# Altium schematic symbol library ThangTM_Sch.SchLib: 137 symbols (part 3 of 4)
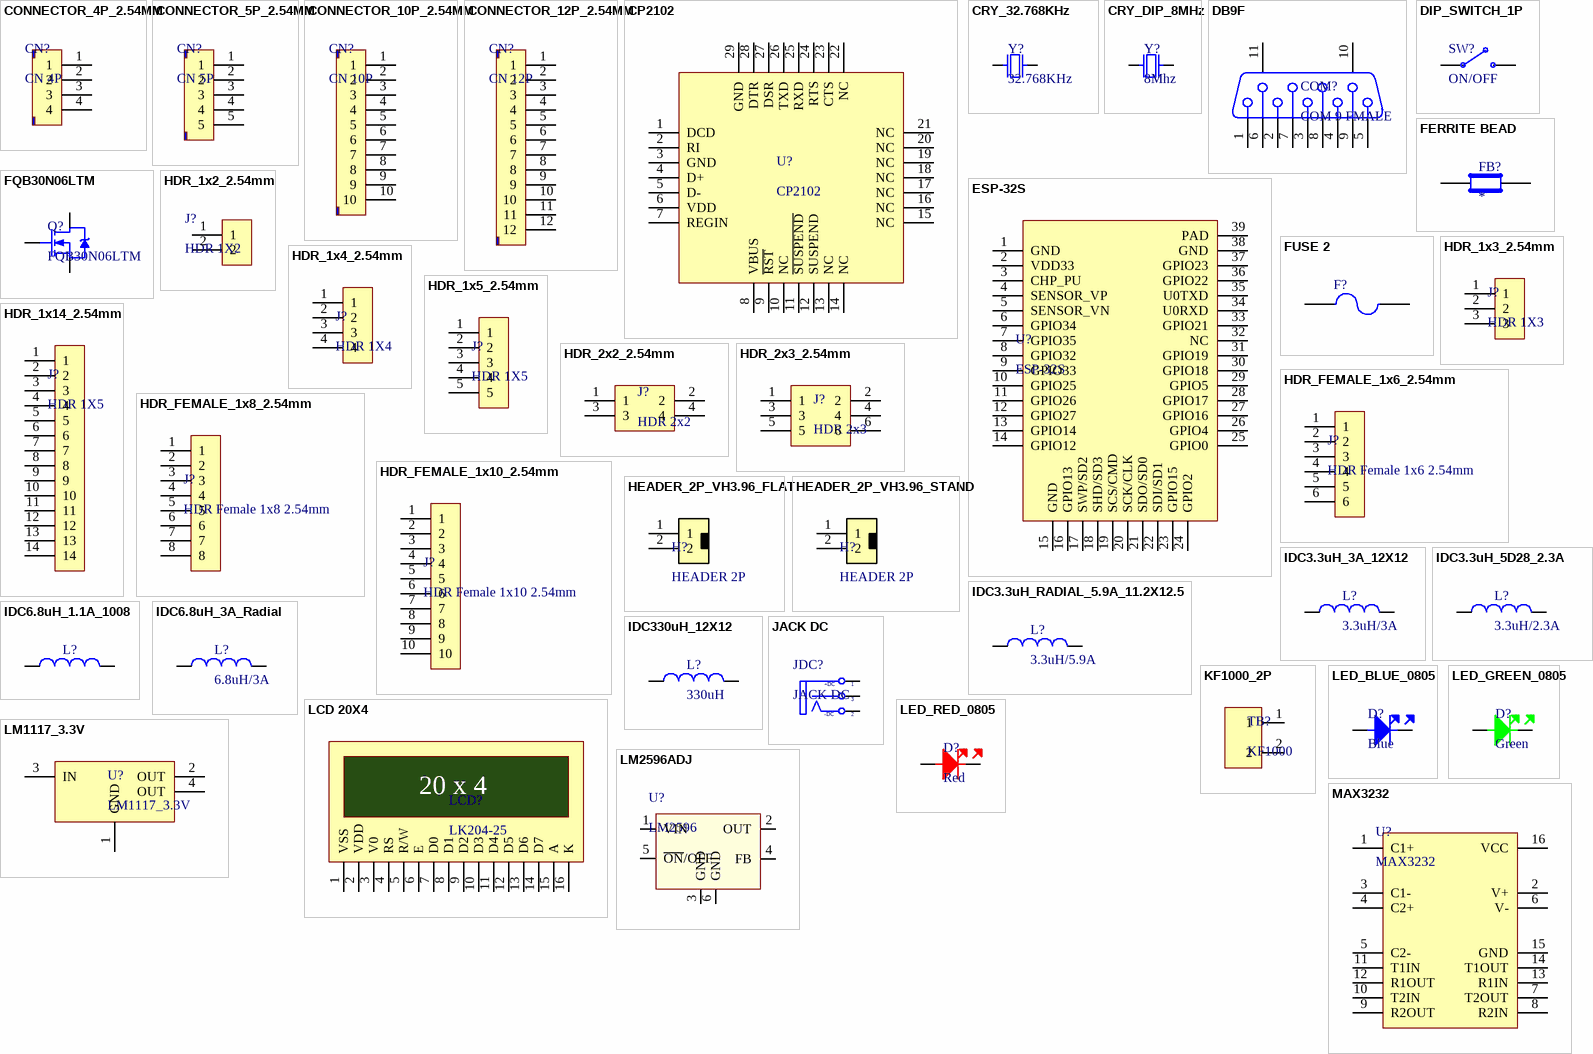
[diagram p5: symbols CONNECTOR_4P_2.54MM to MAX3232]

## LED_GREEN_0805
designator D?, comment Green
LED GREEN DIFFUSED 0805 SMD; Manufacturer: Vishay Lite-On; Manufacturer Part Number: LTST-C171GKT; Lens Color: Colorless; Viewing Angle: 130°; Lens Style: Diffused,Colorless,Rectangular,Clear; Luminous Intensity: 12mcd; Forward Current: 30mA; Forward Voltage: 2.1V; Power Rating: 100mW; Dominant Wavelength: 569nm; Test Current: 10mA; Lens Transparency: Clear; Number of Elements: 1; Wavelength: 585nm; Reverse Voltage: 5V; Supplier 1: Digi-Key; Supplier Part Number 1: 160-1423-1-ND; Stock 1: 284618; Pricing 1: 1 = 0.28000, 10 = 0.20100, 100 = 0.09540, 500 = 0.06364, 1000 = 0.04984 (USD); RoHS: Yes; Mount: Surface Mount; Case/Package: 0805; Number of Pins: 2; Color: Green; Case Code (Metric): 2012; Case Code (Imperial): 0805; Min Operating Temperature: -55°C; Max Operating Temperature: 85°C; Package Quantity: 1; Packaging: Tape and Reel; Illumination Color: Green; Power Dissipation: 100mW; Number of LEDs: 1; Length: 2mm; Height: 0.8mm; Width: 1.25mm; Depth: 1.25mm; Radiation Hardening: No; Lead Free: Lead Free; ComponentLink1URL: https://datasheet.ciiva.com/11773/0900766b80dc0296-11773991.pdf?src-supplier=RSComponents; ComponentLink1Description: https://datasheet.ciiva.com/11773/0900766b80dc0296-11773991.pdf?src-supplier=RSComponents; ComponentLink2URL: https://datasheet.ciiva.com/2110/ltst-c171gkt-2110000.pdf?src-supplier=Digi-Key; ComponentLink2Description: https://datasheet.ciiva.com/2110/ltst-c171gkt-2110000.pdf?src-supplier=Digi-Key; ComponentLink3URL: https://datasheet.ciiva.com/12400/lite-on-ltst-c171gkt-190133-12400647.pdf?src-supplier=Mouser; ComponentLink3Description: https://datasheet.ciiva.com/12400/lite-on-ltst-c171gkt-190133-12400647.pdf?src-supplier=Mouser; ComponentLink4URL: https://datasheet.ciiva.com/2110/ltst-c171gkt-2110001.pdf?src-supplier=Digi-Key; ComponentLink4Description: https://datasheet.ciiva.com/2110/ltst-c171gkt-2110001.pdf?src-supplier=Digi-Key; ComponentLink5URL: https://datasheet.ciiva.com/2110/ltst-c171gkt-2110002.pdf?src-supplier=Digi-Key; ComponentLink5Description: https://datasheet.ciiva.com/2110/ltst-c171gkt-2110002.pdf?src-supplier=Digi-Key; ComponentLink6URL: https://datasheet.ciiva.com/16396/ltst-c171gkt-16396549.pdf?src-supplier=Future+Electronics; ComponentLink6Description: https://datasheet.ciiva.com/16396/ltst-c171gkt-16396549.pdf?src-supplier=Future+Electronics
footprint LED_GREEN_0805
pins: 1 Anode, 2 Cathode

## LED_RED_0805
designator D?, comment Red
LED RED DIFFUSED 0805 SMD; Manufacturer: Osram Opto; Manufacturer Part Number: LHR974-LP-1; Forward Voltage: 2.6V; Lens Style: Diffused,Colorless; Luminous Intensity: 15mcd; Viewing Angle: 160°; Forward Current: 30mA; Dominant Wavelength: 645nm; Number of Elements: 1; Test Current: 20mA; Reverse Voltage: 5V; Supplier 1: Digi-Key; Supplier Part Number 1: 475-1415-1-ND; Stock 1: 73137; Pricing 1: 1 = 0.27000, 10 = 0.20100, 100 = 0.09510, 500 = 0.06340, 1000 = 0.04966 (USD); RoHS: Yes; Mount: Surface Mount; Number of Pins: 2; Min Operating Temperature: -30°C; Max Operating Temperature: 85°C; Packaging: Tape and Reel; Length: 2.1mm; Depth: 1.35mm; Radiation Hardening: No; ComponentLink1URL: http://www.jameco.com/Jameco/Products/ProdDS/2085634.pdf?src-supplier=Jameco; ComponentLink1Description: http://www.jameco.com/Jameco/Products/ProdDS/2085634.pdf?src-supplier=Jameco; ComponentLink2URL: http://components.arrow.com/part/dataview/0323_01825492?src-supplier=Arrow+Europe; ComponentLink2Description: http://components.arrow.com/part/dataview/0323_01825492?src-supplier=Arrow+Europe; ComponentLink3URL: http://components.arrow.com/part/dataview/41971690S1077610N9133?src-supplier=Arrow; ComponentLink3Description: http://components.arrow.com/part/dataview/41971690S1077610N9133?src-supplier=Arrow; ComponentLink4URL: https://dammedia.osram.info/media/resource/hires/osram-dam-2493888/LH%20R974.pdf?src-supplier=Digi-Key; ComponentLink4Description: https://dammedia.osram.info/media/resource/hires/osram-dam-2493888/LH%20R974.pdf?src-supplier=Digi-Key; ComponentLink5URL: http://components.arrow.com/part/dataview/41971690S6190115N2128?src-supplier=Arrow; ComponentLink5Description: http://components.arrow.com/part/dataview/41971690S6190115N2128?src-supplier=Arrow; ComponentLink6URL: http://www.mouser.com/ds/2/311/LH%20R974%20-%20CHIPLED%200805-318659.pdf?src-supplier=Mouser; ComponentLink6Description: http://www.mouser.com/ds/2/311/LH%20R974%20-%20CHIPLED%200805-318659.pdf?src-supplier=Mouser; ComponentLink7URL: https://www.verical.com/server-webapp/html/getDatasheet?partID=258950&src-supplier=Verical; ComponentLink7Description: https://www.verical.com/server-webapp/html/getDatasheet?partID=258950&src-supplier=Verical
footprint LED_RED_0805
pins: 1 Anode, 2 Cathode

## LM1117_3.3V
designator U?
LDO Regulator Pos 1.25V to 13.8V 0.8A 4-Pin(3+Tab) SOT-223 T/R; Manufacturer: TI National Semiconductor; Manufacturer Part Number: LM1117IMPX-ADJ/NOPB; Max Input Voltage: 15V; Max Output Current: 800mA; Accuracy: 1%; Dropout Voltage: 1.2V; Number of Outputs: 1; Output Voltage: 3.3V; Polarity: Positive; Quiescent Current: 10mA; Output Type: Fixed; Min Input Voltage: 2.6V; Case/Package: SOT-223; Contact Plating: Tin,Matte; Max Operating Temperature: 125°C; Lead Free: Lead Free; Supplier 1: Digi-Key; Stock 1: 39623; Pricing 1: 1 = 1.10000, 10 = 0.98500, 100 = 0.71810, 500 = 0.60120, 1000 = 0.46760 (USD); RoHS: Yes; Mount: Surface Mount; Number of Pins: 4; Min Operating Temperature: -40°C; Nominal Output Voltage: 3.3V; Output Current: 800mA; Packaging: Tape and Reel; Current Rating: 800mA; Output Voltage Accuracy: 1%; Max Output Voltage: 3.3V; Length: 6.5mm; Height: 1.6mm; Width: 3.56mm; REACH SVHC: No SVHC; ComponentLink1URL: https://datasheet.ciiva.com/49027/1882372-49027926.pdf?src-supplier=Element14; ComponentLink1Description: https://datasheet.ciiva.com/49027/1882372-49027926.pdf?src-supplier=Element14; Supplier Part Number 1: LM1117MPX-3.3/NOPBCT-ND
footprint SOT-223-DCY
pins: 1 GND, 2 OUT, 3 IN, 4 OUT

## LM2596ADJ
designator U?, comment LM2596
Conv DC-DC Single Step Down 4.5V to 40V 6-Pin(5+Tab) D2PAK T/R; Manufacturer: ON Semiconductor; Manufacturer Part Number: LM2596DSADJR4G; Max Output Current: 3A; Number of Outputs: 1; Output Voltage: 37V; Efficiency: 73%; Switching Frequency: 150kHz; Synchronous Rectifier: No; Min Output Voltage: 1.23V; Topology: Buck-Boost; Output Type: Adjustable; ComponentLink1URL: https://www.verical.com/server-webapp/html/getDatasheet?partID=224280&src-supplier=Verical; ComponentLink1Description: https://www.verical.com/server-webapp/html/getDatasheet?partID=224280&src-supplier=Verical; ComponentLink2URL: http://www.onsemi.com/pub_link/Collateral/LM2596-D.PDF?src-supplier=Digi-Key; ComponentLink2Description: http://www.onsemi.com/pub_link/Collateral/LM2596-D.PDF?src-supplier=Digi-Key; ComponentLink3URL: http://www.onsemi.com/pub/Collateral/LM2596-D.PDF?src-supplier=Digi-Key; ComponentLink3Description: http://www.onsemi.com/pub/Collateral/LM2596-D.PDF?src-supplier=Digi-Key; ComponentLink4URL: http://www.onsemi.com/pub/Collateral/LM2596-D.PDF?src-supplier=Avnet; ComponentLink4Description: http://www.onsemi.com/pub/Collateral/LM2596-D.PDF?src-supplier=Avnet; Supplier 1: Digi-Key; Stock 1: 13170; Pricing 1: 1 = 2.54000, 10 = 2.27900, 100 = 1.83170 (USD); RoHS: Yes; Mount: Surface Mount; Case/Package: D2PAK; Number of Pins: 5; Min Operating Temperature: -40°C; Max Operating Temperature: 125°C; Max Input Voltage: 40V; Min Input Voltage: 4.5V; Packaging: Tape and Reel; Output Current: 3A; Package Quantity: 800; Max Output Voltage: 37V; Operating Supply Voltage: 40V; Length: 10.24mm; Height: 9.347mm; Width: 4.572mm; Radiation Hardening: No; REACH SVHC: No SVHC; Lead Free: Lead Free; Halogen Free: Halogen Free; ComponentLink5URL: https://datasheet.ciiva.com/15113/getdatasheetpartid-224280-15113862.pdf?src-supplier=Verical; ComponentLink5Description: https://datasheet.ciiva.com/15113/getdatasheetpartid-224280-15113862.pdf?src-supplier=Verical; ComponentLink6URL: https://datasheet.ciiva.com/6603/lm2596-d-6603896.pdf?src-supplier=Digi-Key; ComponentLink6Description: https://datasheet.ciiva.com/6603/lm2596-d-6603896.pdf?src-supplier=Digi-Key; ComponentLink7URL: https://datasheet.ciiva.com/6603/lm2596-d-6603897.pdf?src-supplier=Digi-Key; ComponentLink7Description: https://datasheet.ciiva.com/6603/lm2596-d-6603897.pdf?src-supplier=Digi-Key; ComponentLink8URL: https://datasheet.ciiva.com/6603/lm2596-d-6603898.pdf?src-supplier=Digi-Key; ComponentLink8Description: https://datasheet.ciiva.com/6603/lm2596-d-6603898.pdf?src-supplier=Digi-Key; ComponentLink9URL: https://datasheet.ciiva.com/8270/lm2596-d-8270188.pdf?src-supplier=Avnet; ComponentLink9Description: https://datasheet.ciiva.com/8270/lm2596-d-8270188.pdf?src-supplier=Avnet; Supplier Part Number 1: LM2596DSADJR4GOSCT-ND
footprint D2_PAK
pins: 1 VIN, 2 OUT, 3 GND, 4 FB, 5 ~{ON}/OFF, 6 GND

## MAX3232
designator U?
IC DRVR/RCVR MULTCH RS232 16SOIC; Manufacturer: Texas Instruments; Manufacturer Part Number: MAX3232CDR; Number of Receivers: 2; Data Rate: 250Kbps; Operating Supply Voltage: 5V; Max Supply Voltage: 5.5V; Min Supply Voltage: 3V; Nominal Supply Current: 1mA; Logic Function: Transceiver,Receiver; Number of Transceivers: 1; Output Voltage: 5.4V; Simplex/Duplex: Full Duplex; ESD Protection: Yes; Supplier 1: Digi-Key; Stock 1: 12554; Pricing 1: 1=1.89000, 10=1.69500, 25=1.59920, 100=1.27930, 250=1.11936, 500=1.08738, 1000=0.86350 (USD); RoHS: Yes; Mount: Surface Mount; Case/Package: D; Number of Pins: 16; Weight: 0.004998oz; Contact Plating: Gold; Min Operating Temperature: -40°C; Max Operating Temperature: 85°C; Number of Transmitters: 2; Packaging: Tape and Reel; Package Quantity: 1; Number of Drivers: 2; Operating Supply Current: 1mA; Max Supply Current: 1mA; Length: 9.9mm; Height: 1.58mm; Width: 3.91mm; Radiation Hardening: No; REACH SVHC: No SVHC; Lead Free: Lead Free; ComponentLink1URL: https://datasheet.ciiva.com/41461/001186897-da-01-en-ic-drvr-rcvr-mult-max3232cdr-soic-16-tid-41461424.pdf?src-supplier=Conrad; ComponentLink1Description: https://datasheet.ciiva.com/41461/001186897-da-01-en-ic-drvr-rcvr-mult-max3232cdr-soic-16-tid-41461424.pdf?src-supplier=Conrad; ComponentLink2URL: https://datasheet.ciiva.com/1702/max3232-1702778.pdf?src-supplier=Digi-Key; ComponentLink2Description: https://datasheet.ciiva.com/1702/max3232-1702778.pdf?src-supplier=Digi-Key; ComponentLink3URL: https://datasheet.ciiva.com/1702/max3232-1702779.pdf?src-supplier=Digi-Key; ComponentLink3Description: https://datasheet.ciiva.com/1702/max3232-1702779.pdf?src-supplier=Digi-Key; ComponentLink4URL: https://datasheet.ciiva.com/1702/max3232-1702780.pdf?src-supplier=Digi-Key; ComponentLink4Description: https://datasheet.ciiva.com/1702/max3232-1702780.pdf?src-supplier=Digi-Key; ComponentLink5URL: https://datasheet.ciiva.com/46397/1882754-46397998.pdf?src-supplier=Element14; ComponentLink5Description: https://datasheet.ciiva.com/46397/1882754-46397998.pdf?src-supplier=Element14; Supplier Part Number 1: 296-13094-1-ND
footprint PDSO_G16
pins: 1 C1+, 2 V+, 3 C1-, 4 C2+, 5 C2-, 6 V-, 7 T2OUT, 8 R2IN, 9 R2OUT, 10 T2IN, 11 T1IN, 12 R1OUT, 13 R1IN, 14 T1OUT, 15 GND, 16 VCC

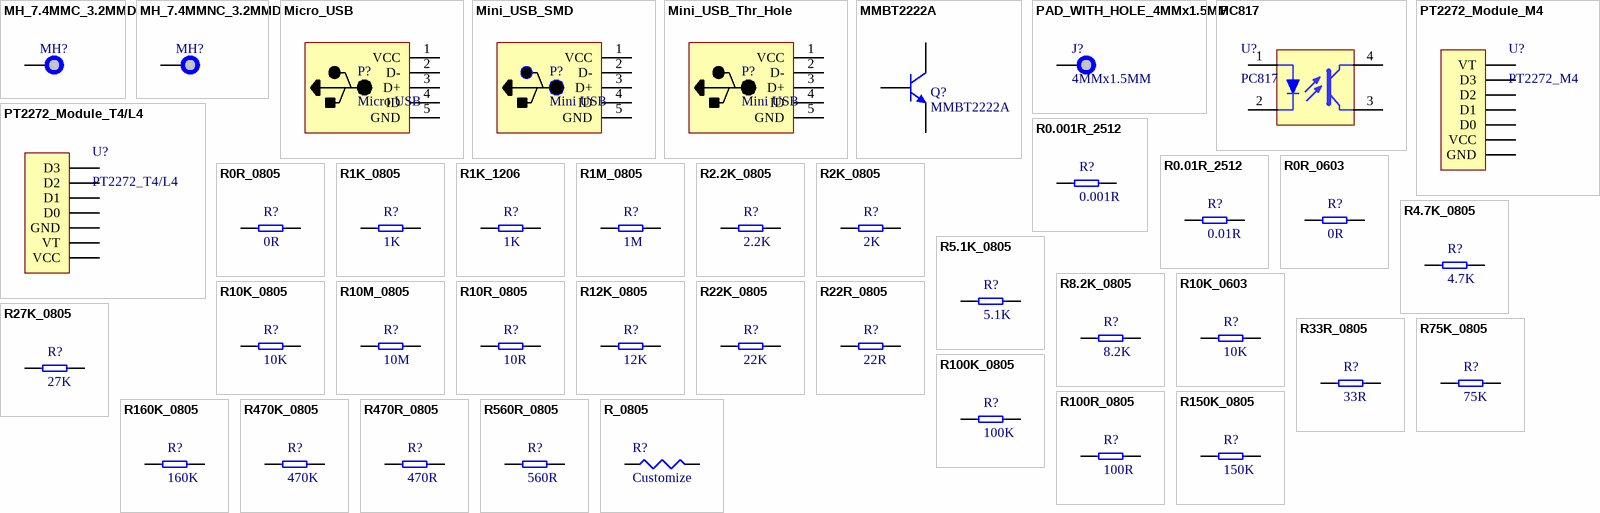
[diagram p2: symbols MH_7.4MMC_3.2MMD to R_0805]

## MH_7.4MMC_3.2MMD
designator MH?  (value not drawn)  (no BOM)
Mouting hole 7.4MM Diameter, 3.2MM Drill
footprint MH_7.4MMC_3.2MMD
pins: 1

## MH_7.4MMNC_3.2MMD
designator MH?, comment MH_7.4MMC_3.2MMD  (value not drawn)  (no BOM)
Mouting hole 7.4MM Diameter (Non Copper), 3.2MM Drill NPTH
footprint MH_7.4MMC_3.2MMD_NON_COPPER_NPTH
pins: 1

## Micro_USB
designator P?, comment Micro USB
pins: 1 VCC, 2 D-, 3 D+, 4 ID, 5 GND

## Mini_USB_SMD
designator P?, comment Mini USB
footprint MiniUSB_SMD
pins: 1 VCC, 2 D-, 3 D+, 4 ID, 5 GND

## Mini_USB_Thr_Hole
designator P?, comment Mini USB
footprint MiniUSB_Thr_Hole
pins: 1 VCC, 2 D-, 3 D+, 4 ID, 5 GND

## MMBT2222A
designator Q?
Transistors Bipolar - BJT SOT-23 NPN GEN PUR; Manufacture: Fairchild Semiconductor; BSH Part number: Q-MMBT2222A; Datasheet: http://www.mouser.com/ds/2/149/MMBT2222A-69200.pdf; Part number: MMBT2222A; Mouser add: http://vn.mouser.com/ProductDetail/Fairchild-Semiconductor/MMBT2222A/?qs=sGAEpiMZZMutXGli8Ay4kHKRdIvtrnJvbVzYv9px7so%3d
footprint SOT_23
pins: 1 B, 2 C, 3 E

## PAD_WITH_HOLE_4MMx1.5MM
designator J?, comment 4MMx1.5MM  (no BOM)
Pad with a hole 4mm x 1.5mm
footprint PAD_WITH_HOLE_4MMx1.5MM
pins: 1

## PC817
designator U?
Part number: PC817XNNIP1B; datasheet: https://www.mouser.com/datasheet/2/365/SHARP_PC817XNNIP1B-1360398.pdf; Package: SMD-4; Mouser Link: https://www.mouser.com/ProductDetail/Sharp-Microelectronics/PC817XNNIP1B?qs=%2fha2pyFadujbJ58agqN33HT7tJVy2SrMtv2Oa5iQyCWT37brMPf2hQ%3d%3d
footprint PC817x1SMD (SMD)
pins: 1 A, 2 K, 3 E, 4 C

## PT2272_Module_M4
designator U?, comment PT2272_M4
footprint PT2272_M4
pins: 1 VT, 2 D3, 3 D2, 4 D1, 5 D0, 6 VCC, 7 GND

## PT2272_Module_T4/L4
designator U?, comment PT2272_T4/L4
footprint PT2272_T4/L4
pins: 1 D3, 2 D2, 3 D1, 4 D0, 5 GND, 6 VT, 7 VCC

## R0.001R_2512
designator R?, comment 0.001R
RES 0.001 OHM 1% 2W 2512; Manufacturer: Stackpole Electronics; Manufacturer Part Number: CSNL2512FT1L00; Resistance: 1mR; Temperature Coefficient: 50ppm/°C; Supplier 1: Digi-Key; Supplier Part Number 1: CSNL2512FT1L00CT-ND; Stock 1: 105490; Pricing 1: 1 = 0.68000, 10 = 0.56600, 25 = 0.48520, 50 = 0.43660, 100 = 0.38000, 250 = 0.33956, 500 = 0.27490, 1000 = 0.22234 (USD); RoHS: Yes; Mount: Surface Mount; Case/Package: 2512; Case Code (Metric): 6432; Case Code (Imperial): 2512; Contact Plating: Tin,Matte; Min Operating Temperature: -55°C; Max Operating Temperature: 170°C; Packaging: Tape and Reel; Tolerance: 1%; Power Rating: 2W; Composition: Metal Foil; Number of Terminations: 2; Max Power Dissipation: 2W; Features: Moisture Resistant; Length: 0.25inch; Height: 0.033inch; Width: 0.125inch; Radiation Hardening: No; Lead Free: Lead Free; ComponentLink1URL: http://components.arrow.com/part/dataview/47858191S8378277N1174?src-supplier=Arrow; ComponentLink1Description: http://components.arrow.com/part/dataview/47858191S8378277N1174?src-supplier=Arrow; ComponentLink2URL: http://www.seielect.com/Catalog/SEI-csnl.pdf?src-supplier=Future+Electronics; ComponentLink2Description: http://www.seielect.com/Catalog/SEI-csnl.pdf?src-supplier=Future+Electronics; ComponentLink3URL: https://www.seielect.com/catalog/SEI-Packaging.pdf?src-supplier=Digi-Key; ComponentLink3Description: https://www.seielect.com/catalog/SEI-Packaging.pdf?src-supplier=Digi-Key; ComponentLink4URL: https://www.seielect.com/Catalog/SEI-csnl.pdf?src-supplier=Digi-Key; ComponentLink4Description: https://www.seielect.com/Catalog/SEI-csnl.pdf?src-supplier=Digi-Key; ComponentLink5URL: https://www.seielect.com/Catalog/SEI-CSNL.pdf?src-supplier=Avnet; ComponentLink5Description: https://www.seielect.com/Catalog/SEI-CSNL.pdf?src-supplier=Avnet
footprint R2512
pins: 1, 2

## R0.01R_2512
designator R?, comment 0.01R
RES SMD 10 mOHM 1% 1W 2512; Manufacturer: Vishay Dale; Manufacturer Part Number: WSL2512R0100FEA; Resistance: 10mR; Temperature Coefficient: 75ppm/°C; Voltage Rating: 100mV; Supplier 1: Digi-Key; Supplier Part Number 1: WSLG-.01CT-ND; Stock 1: 145957; Pricing 1: 1 = 1.37000, 10 = 1.21700, 25 = 1.11920, 50 = 1.02100, 100 = 0.88360, 250 = 0.74612, 500 = 0.62832, 1000 = 0.52229 (USD); RoHS: Yes; Case/Package: 2512; Weight: 0.002243oz; Contact Plating: Tin,Matte; Case Code (Imperial): 2512; Case Code (Metric): 6432; Min Operating Temperature: -65°C; Max Operating Temperature: 170°C; Tolerance: 1%; Power Rating: 1W; Composition: Metal Strip; Packaging: Tape and Reel; Package Quantity: 2000; Termination: SMD/SMT; Military Standard: Not; Length: 6.35mm; Height: 0.635mm; Width: 3.2mm; Depth: 3.18mm; Radiation Hardening: No; REACH SVHC: Unknown; Lead Free: Lead Free; ComponentLink1URL: https://datasheet.ciiva.com/3883/wsl-3883058.pdf?src-supplier=Arrow; ComponentLink1Description: https://datasheet.ciiva.com/3883/wsl-3883058.pdf?src-supplier=Arrow; ComponentLink2URL: https://datasheet.ciiva.com/11811/0900766b80d81e3e-11811765.pdf?src-supplier=RSComponents; ComponentLink2Description: https://datasheet.ciiva.com/11811/0900766b80d81e3e-11811765.pdf?src-supplier=RSComponents; ComponentLink3URL: https://datasheet.ciiva.com/28621/1911169-28621845.pdf?src-supplier=Element14; ComponentLink3Description: https://datasheet.ciiva.com/28621/1911169-28621845.pdf?src-supplier=Element14; ComponentLink4URL: https://datasheet.ciiva.com/7702/442550-7702454.pdf?src-supplier=Element14; ComponentLink4Description: https://datasheet.ciiva.com/7702/442550-7702454.pdf?src-supplier=Element14; ComponentLink5URL: https://datasheet.ciiva.com/7702/442550-7702455.pdf?src-supplier=Element14; ComponentLink5Description: https://datasheet.ciiva.com/7702/442550-7702455.pdf?src-supplier=Element14; ComponentLink6URL: https://datasheet.ciiva.com/16504/wsl-16504424.pdf?src-supplier=Future+Electronics; ComponentLink6Description: https://datasheet.ciiva.com/16504/wsl-16504424.pdf?src-supplier=Future+Electronics; ComponentLink7URL: https://datasheet.ciiva.com/46385/1825016-46385259.pdf?src-supplier=Element14; ComponentLink7Description: https://datasheet.ciiva.com/46385/1825016-46385259.pdf?src-supplier=Element14; ComponentLink8URL: https://datasheet.ciiva.com/9049/wsl-9049372.pdf?src-supplier=Avnet; ComponentLink8Description: https://datasheet.ciiva.com/9049/wsl-9049372.pdf?src-supplier=Avnet; ComponentLink9URL: https://datasheet.ciiva.com/17190/wsl-17190047.pdf?src-supplier=Avnet+Europe; ComponentLink9Description: https://datasheet.ciiva.com/17190/wsl-17190047.pdf?src-supplier=Avnet+Europe
footprint R2512
pins: 1, 2

## R0R_0603
designator R?, comment 0R
footprint R0603
pins: 1, 2

## R0R_0805
designator R?, comment 0R
RES SMD 0 OHM JUMPER 1/8W 0805; Manufacturer: Yageo; Manufacturer Part Number: RC0805JR-070RL; Resistance: 0mR; Tolerance: 5%; Power Rating: 125mW; Voltage Rating: 150V; Temperature Coefficient: 200ppm/°C; Supplier 1: Digi-Key; Supplier Part Number 1: 311-0.0ARCT-ND; Stock 1: 13851015; Pricing 1: 1 = 0.10000, 10 = 0.03800, 25 = 0.02760, 50 = 0.02100, 100 = 0.01540, 250 = 0.01180, 500 = 0.00942, 1000 = 0.00694 (USD); RoHS: Yes; Case/Package: 0805; Number of Pins: 2; Contact Plating: Tin,Matte; Case Code (Imperial): 0805; Case Code (Metric): 2012; Min Operating Temperature: -55°C; Max Operating Temperature: 155°C; Composition: Thick Film; Packaging: Tape and Reel; Voltage Rating (DC): 150V; Termination: SMD/SMT; Military Standard: Not; Length: 2mm; Height: 0.5mm; Width: 1.25mm; Depth: 1.25mm; Radiation Hardening: No; REACH SVHC: Unknown; Lead Free: Lead Free; ComponentLink1URL: https://datasheet.ciiva.com/7941/1738694-7941861.pdf?src-supplier=Element14; ComponentLink1Description: https://datasheet.ciiva.com/7941/1738694-7941861.pdf?src-supplier=Element14; ComponentLink2URL: https://datasheet.ciiva.com/11819/0900766b8106beab-11819430.pdf?src-supplier=RSComponents; ComponentLink2Description: https://datasheet.ciiva.com/11819/0900766b8106beab-11819430.pdf?src-supplier=RSComponents; ComponentLink3URL: https://datasheet.ciiva.com/7941/1738694-7941862.pdf?src-supplier=Element14; ComponentLink3Description: https://datasheet.ciiva.com/7941/1738694-7941862.pdf?src-supplier=Element14; ComponentLink4URL: https://datasheet.ciiva.com/7941/1738694-7941863.pdf?src-supplier=Element14; ComponentLink4Description: https://datasheet.ciiva.com/7941/1738694-7941863.pdf?src-supplier=Element14; ComponentLink5URL: https://datasheet.ciiva.com/15190/getdatasheetpartid-330685-15190028.pdf?src-supplier=Verical; ComponentLink5Description: https://datasheet.ciiva.com/15190/getdatasheetpartid-330685-15190028.pdf?src-supplier=Verical
footprint R0805
pins: 1, 2

## R1K_0805
designator R?, comment 1K
RES SMD 1K OHM 1% 1/8W 0805; Manufacturer: Yageo; Manufacturer Part Number: RC0805FR-071KL; Resistance: 1kR; Temperature Coefficient: 100ppm/°C; Voltage Rating (DC): 150V; Power Rating: 125mW; Supplier 1: Digi-Key; Stock 1: 26292297; Pricing 1: 1 = 0.10000, 10 = 0.03600, 100 = 0.01480, 1000 = 0.00663, 2500 = 0.00575 (USD); RoHS: Yes; Case/Package: 0805; Number of Pins: 2; Case Code (Metric): 2012; Case Code (Imperial): 0805; Min Operating Temperature: -55°C; Max Operating Temperature: 155°C; Tolerance: 1%; Packaging: Tape and Reel; Composition: Thick Film; Package Quantity: 1; Voltage Rating: 150V; Number of Terminations: 2; Termination: SMD/SMT; Military Standard: Not; Max Power Dissipation: 125mW; Features: Moisture Resistant; Length: 0.079inch; Height: 0.024inch; Width: 0.049inch; Depth: 1.25mm; REACH SVHC: Unknown; Lead Free: Lead Free; ComponentLink1URL: https://datasheet.ciiva.com/2456/pyu-r-int-thick-7-2456976.pdf?src-supplier=Digi-Key; ComponentLink1Description: https://datasheet.ciiva.com/2456/pyu-r-int-thick-7-2456976.pdf?src-supplier=Digi-Key; ComponentLink2URL: https://datasheet.ciiva.com/2456/pyu-r-int-thick-7-2456977.pdf?src-supplier=Digi-Key; ComponentLink2Description: https://datasheet.ciiva.com/2456/pyu-r-int-thick-7-2456977.pdf?src-supplier=Digi-Key; ComponentLink3URL: https://datasheet.ciiva.com/7941/1686128-7941719.pdf?src-supplier=Element14; ComponentLink3Description: https://datasheet.ciiva.com/7941/1686128-7941719.pdf?src-supplier=Element14; ComponentLink4URL: https://datasheet.ciiva.com/16850/rc0805-16850409.pdf?src-supplier=Future+Electronics; ComponentLink4Description: https://datasheet.ciiva.com/16850/rc0805-16850409.pdf?src-supplier=Future+Electronics; ComponentLink5URL: https://datasheet.ciiva.com/46385/444164-46385020.pdf?src-supplier=Element14; ComponentLink5Description: https://datasheet.ciiva.com/46385/444164-46385020.pdf?src-supplier=Element14; ComponentLink6URL: https://datasheet.ciiva.com/2456/pyu-r-int-thick-7-2456975.pdf?src-supplier=Digi-Key; ComponentLink6Description: https://datasheet.ciiva.com/2456/pyu-r-int-thick-7-2456975.pdf?src-supplier=Digi-Key; Supplier Part Number 1: 311-1.00KCRCT-ND
footprint R0805
pins: 1, 2

## R1K_1206
designator R?, comment 1K
RES SMD 1K OHM 5% 1/4W 1206; Manufacturer: Yageo; Manufacturer Part Number: RC1206JR-071KL; Resistance: 1kR; Power Rating: 250mW; Voltage Rating: 200V; Temperature Coefficient: 100ppm/°C; Supplier 1: Digi-Key; Supplier Part Number 1: 311-1.0KERCT-ND; Stock 1: 3866127; Pricing 1: 1 = 0.10000, 10 = 0.06100, 100 = 0.02490, 1000 = 0.01118, 2500 = 0.00971 (USD); RoHS: Yes; Case/Package: 1206; Case Code (Metric): 3216; Case Code (Imperial): 1206; Min Operating Temperature: -55°C; Max Operating Temperature: 155°C; Package Quantity: 1; Tolerance: 5%; Packaging: Tape and Reel; Composition: Thick Film; Number of Terminations: 2; Termination: SMD/SMT; Military Standard: Not; Max Power Dissipation: 250mW; Length: 3.1mm; Height: 0.026inch; Width: 0.063inch; Depth: 1.6mm; REACH SVHC: Unknown; Lead Free: Lead Free; ComponentLink1URL: https://datasheet.ciiva.com/2458/pyu-r-int-thick-7-2458672.pdf?src-supplier=Digi-Key; ComponentLink1Description: https://datasheet.ciiva.com/2458/pyu-r-int-thick-7-2458672.pdf?src-supplier=Digi-Key; ComponentLink2URL: https://datasheet.ciiva.com/2458/pyu-r-int-thick-7-2458673.pdf?src-supplier=Digi-Key; ComponentLink2Description: https://datasheet.ciiva.com/2458/pyu-r-int-thick-7-2458673.pdf?src-supplier=Digi-Key; ComponentLink3URL: https://datasheet.ciiva.com/2458/pyu-r-int-thick-7-2458671.pdf?src-supplier=Digi-Key; ComponentLink3Description: https://datasheet.ciiva.com/2458/pyu-r-int-thick-7-2458671.pdf?src-supplier=Digi-Key
footprint R1206
pins: 1, 2

## R1M_0805
designator R?, comment 1M
RES SMD 1M OHM 1% 1/8W 0805; Manufacturer: Yageo; Manufacturer Part Number: RC0805FR-071ML; Resistance: 1MR; Temperature Coefficient: 100ppm/°C; Power Rating: 125mW; Voltage Rating: 150V; Supplier 1: Digi-Key; Supplier Part Number 1: 311-1.00MCRCT-ND; Stock 1: 5530159; Pricing 1: 1 = 0.100000, 10 = 0.040000, 100 = 0.016200, 1000 = 0.007260, 2500 = 0.006300 (USD); RoHS: Yes; Case/Package: 0805; Case Code (Metric): 2012; Case Code (Imperial): 0805; Min Operating Temperature: -55°C; Max Operating Temperature: 155°C; Tolerance: 1%; Composition: Thick Film; Packaging: Tape and Reel; Package Quantity: 1; Number of Terminations: 2; Termination: SMD/SMT; Military Standard: Not; Max Power Dissipation: 125mW; Features: Moisture Resistant; Length: 0.079inch; Height: 0.024inch; Width: 0.049inch; Depth: 1.25mm; REACH SVHC: Unknown; Lead Free: Lead Free; ComponentLink1URL: https://datasheet.ciiva.com/2519/pyu-r-int-thick-7-2519712.pdf?src-supplier=Digi-Key; ComponentLink1Description: https://datasheet.ciiva.com/2519/pyu-r-int-thick-7-2519712.pdf?src-supplier=Digi-Key; ComponentLink2URL: https://datasheet.ciiva.com/2519/pyu-r-int-thick-7-2519713.pdf?src-supplier=Digi-Key; ComponentLink2Description: https://datasheet.ciiva.com/2519/pyu-r-int-thick-7-2519713.pdf?src-supplier=Digi-Key; ComponentLink3URL: https://datasheet.ciiva.com/17419/rc0805-17419909.pdf?src-supplier=Future+Electronics; ComponentLink3Description: https://datasheet.ciiva.com/17419/rc0805-17419909.pdf?src-supplier=Future+Electronics; ComponentLink4URL: https://datasheet.ciiva.com/2519/pyu-r-int-thick-7-2519711.pdf?src-supplier=Digi-Key; ComponentLink4Description: https://datasheet.ciiva.com/2519/pyu-r-int-thick-7-2519711.pdf?src-supplier=Digi-Key; ComponentLink5URL: https://datasheet.ciiva.com/12666/rc0805-12666975.pdf?src-supplier=Mouser; ComponentLink5Description: https://datasheet.ciiva.com/12666/rc0805-12666975.pdf?src-supplier=Mouser
footprint R0805
pins: 1, 2

## R2.2K_0805
designator R?, comment 2.2K
RES SMD 2.2K OHM 1% 1/8W 0805; Manufacturer: Yageo; Manufacturer Part Number: RC0805FR-072K2L; Resistance: 2.2kR; Temperature Coefficient: 100ppm/°C; Voltage Rating (DC): 150V; Power Rating: 125mW; Supplier 1: Digi-Key; Supplier Part Number 1: 311-2.20KCRCT-ND; Stock 1: 4508075; Pricing 1: 1 = 0.10000, 10 = 0.04000, 100 = 0.01630, 1000 = 0.00731, 2500 = 0.00635 (USD); RoHS: Yes; Case/Package: 0805; Number of Pins: 2; Case Code (Imperial): 0805; Case Code (Metric): 2012; Min Operating Temperature: -55°C; Max Operating Temperature: 155°C; Composition: Thick Film; Tolerance: 1%; Packaging: Tape and Reel; Voltage Rating: 150V; Package Quantity: 1; Termination: SMD/SMT; Number of Terminations: 2; Military Standard: Not; Max Power Dissipation: 125mW; Features: Moisture Resistant; Length: 2mm; Height: 0.5mm; Width: 1.25mm; Depth: 1.25mm; Lead Pitch: 0.4mm; REACH SVHC: Unknown; Lead Free: Lead Free; ComponentLink1URL: https://datasheet.ciiva.com/7660/38627-7660800.pdf?src-supplier=Element14; ComponentLink1Description: https://datasheet.ciiva.com/7660/38627-7660800.pdf?src-supplier=Element14; ComponentLink2URL: https://datasheet.ciiva.com/11808/0900766b8106beab-11808373.pdf?src-supplier=RSComponents; ComponentLink2Description: https://datasheet.ciiva.com/11808/0900766b8106beab-11808373.pdf?src-supplier=RSComponents; ComponentLink3URL: https://datasheet.ciiva.com/46447/444164-46447575.pdf?src-supplier=Element14; ComponentLink3Description: https://datasheet.ciiva.com/46447/444164-46447575.pdf?src-supplier=Element14; ComponentLink4URL: https://datasheet.ciiva.com/2457/pyu-r-int-thick-7-2457002.pdf?src-supplier=Digi-Key; ComponentLink4Description: https://datasheet.ciiva.com/2457/pyu-r-int-thick-7-2457002.pdf?src-supplier=Digi-Key; ComponentLink5URL: https://datasheet.ciiva.com/7941/444164-7941754.pdf?src-supplier=Element14; ComponentLink5Description: https://datasheet.ciiva.com/7941/444164-7941754.pdf?src-supplier=Element14; ComponentLink6URL: https://datasheet.ciiva.com/2457/pyu-r-int-thick-7-2457003.pdf?src-supplier=Digi-Key; ComponentLink6Description: https://datasheet.ciiva.com/2457/pyu-r-int-thick-7-2457003.pdf?src-supplier=Digi-Key; ComponentLink7URL: https://datasheet.ciiva.com/7941/444164-7941755.pdf?src-supplier=Element14; ComponentLink7Description: https://datasheet.ciiva.com/7941/444164-7941755.pdf?src-supplier=Element14; ComponentLink8URL: https://datasheet.ciiva.com/2457/pyu-r-int-thick-7-2457004.pdf?src-supplier=Digi-Key; ComponentLink8Description: https://datasheet.ciiva.com/2457/pyu-r-int-thick-7-2457004.pdf?src-supplier=Digi-Key; ComponentLink9URL: https://datasheet.ciiva.com/46412/444164-46412862.pdf?src-supplier=Element14; ComponentLink9Description: https://datasheet.ciiva.com/46412/444164-46412862.pdf?src-supplier=Element14
footprint R0805
pins: 1, 2

## R2K_0805
designator R?, comment 2K
RES SMD 2K OHM 1% 1/8W 0805; Manufacturer: Yageo; Manufacturer Part Number: RC0805FR-072KL; Resistance: 2kR; Temperature Coefficient: 100ppm/°C; Voltage Rating (DC): 150V; Power Rating: 125mW; Supplier 1: Digi-Key; Supplier Part Number 1: 311-2.00KCRCT-ND; Stock 1: 3932242; Pricing 1: 1 = 0.10000, 10 = 0.04000, 100 = 0.01630, 1000 = 0.00731, 2500 = 0.00635 (USD); RoHS: Yes; Case/Package: 0805; Number of Pins: 2; Case Code (Metric): 2012; Case Code (Imperial): 0805; Min Operating Temperature: -55°C; Max Operating Temperature: 155°C; Tolerance: 1%; Composition: Thick Film; Packaging: Tape and Reel; Voltage Rating: 150V; Package Quantity: 1; Number of Terminations: 2; Termination: SMD/SMT; Military Standard: Not; Max Power Dissipation: 125mW; Working Voltage: 150V; Features: Moisture Resistant; Length: 2mm; Height: 0.024inch; Width: 0.049inch; Depth: 1.25mm; Lead Free: Lead Free; REACH SVHC: No SVHC; ComponentLink1URL: https://datasheet.ciiva.com/11819/0900766b8106beab-11819830.pdf?src-supplier=RSComponents; ComponentLink1Description: https://datasheet.ciiva.com/11819/0900766b8106beab-11819830.pdf?src-supplier=RSComponents; ComponentLink2URL: https://datasheet.ciiva.com/2457/pyu-r-int-thick-7-2457026.pdf?src-supplier=Digi-Key; ComponentLink2Description: https://datasheet.ciiva.com/2457/pyu-r-int-thick-7-2457026.pdf?src-supplier=Digi-Key; ComponentLink3URL: https://datasheet.ciiva.com/2457/pyu-r-int-thick-7-2457027.pdf?src-supplier=Digi-Key; ComponentLink3Description: https://datasheet.ciiva.com/2457/pyu-r-int-thick-7-2457027.pdf?src-supplier=Digi-Key; ComponentLink4URL: https://datasheet.ciiva.com/2457/pyu-r-int-thick-7-2457028.pdf?src-supplier=Digi-Key; ComponentLink4Description: https://datasheet.ciiva.com/2457/pyu-r-int-thick-7-2457028.pdf?src-supplier=Digi-Key; ComponentLink5URL: https://datasheet.ciiva.com/46395/444164-46395128.pdf?src-supplier=Element14; ComponentLink5Description: https://datasheet.ciiva.com/46395/444164-46395128.pdf?src-supplier=Element14; ComponentLink6URL: https://datasheet.ciiva.com/12667/rc0805-12667946.pdf?src-supplier=Mouser; ComponentLink6Description: https://datasheet.ciiva.com/12667/rc0805-12667946.pdf?src-supplier=Mouser
footprint R0805
pins: 1, 2

## R4.7K_0805
designator R?, comment 4.7K
RES SMD 4.7K OHM 5% 1/8W 0805; Manufacturer: Yageo; Manufacturer Part Number: RC0805JR-074K7L; Resistance: 4.7kR; Temperature Coefficient: 100ppm/°C; Power Rating: 125mW; Voltage Rating: 150V; Supplier 1: Digi-Key; Stock 1: 3137230; Pricing 1: 1 = 0.10000, 10 = 0.03500, 100 = 0.01400, 1000 = 0.00631, 2500 = 0.00548 (USD); RoHS: Yes; Case/Package: Molded; Contact Plating: Tin,Lead,Matte; Case Code (Imperial): 0805; Case Code (Metric): 2012; Min Operating Temperature: -55°C; Max Operating Temperature: 155°C; Tolerance: 5%; Composition: Thick Film; Packaging: Tape and Reel; Termination: SMD/SMT; Military Standard: Not; Length: 2mm; Depth: 1.25mm; Radiation Hardening: No; REACH SVHC: Unknown; Lead Free: Lead Free; ComponentLink1URL: https://datasheet.ciiva.com/7941/442941-7941974.pdf?src-supplier=Element14; ComponentLink1Description: https://datasheet.ciiva.com/7941/442941-7941974.pdf?src-supplier=Element14; ComponentLink2URL: https://datasheet.ciiva.com/7941/442941-7941973.pdf?src-supplier=Element14; ComponentLink2Description: https://datasheet.ciiva.com/7941/442941-7941973.pdf?src-supplier=Element14; ComponentLink3URL: https://datasheet.ciiva.com/17486/rc0805-17486827.pdf?src-supplier=Future+Electronics; ComponentLink3Description: https://datasheet.ciiva.com/17486/rc0805-17486827.pdf?src-supplier=Future+Electronics; ComponentLink4URL: https://datasheet.ciiva.com/12667/rc0805-12667037.pdf?src-supplier=Mouser; ComponentLink4Description: https://datasheet.ciiva.com/12667/rc0805-12667037.pdf?src-supplier=Mouser; Supplier Part Number 1: 311-4.7KARCT-ND
footprint R0805
pins: 1, 2

## R5.1K_0805
designator R?, comment 5.1K
Res Thick Film 0805 5.1K Ohm 5% 0.125W(1/8W) ±200ppm/C Molded SMD Paper Tape on Plastic Reel; Manufacturer: Bourns; Manufacturer Part Number: CR0805-JW-512ELF; Resistance: 5.1kR; Temperature Coefficient: 200ppm/°C; Voltage Rating (DC): 150V; Power Rating: 125mW; Supplier 1: Digi-Key; Stock 1: 39119; Pricing 1: 1=0.10000, 10=0.06200, 100=0.02510, 1000=0.01129, 2500=0.00980 (USD); RoHS: Yes; Mount: Surface Mount; Case/Package: 0805; Contact Plating: Tin; Case Code (Imperial): 0805; Case Code (Metric): 2012; Min Operating Temperature: -55°C; Max Operating Temperature: 155°C; Composition: Thick Film; Tolerance: 5%; Packaging: Tape and Reel; Package Quantity: 5000; Voltage Rating: 150V; Termination: SMD/SMT; Military Standard: Not; Length: 2mm; Height: 0.5mm; Thickness: 508um; Width: 1.25mm; Depth: 1.25mm; Radiation Hardening: No; REACH SVHC: No SVHC; ComponentLink1URL: https://datasheet.ciiva.com/16933/chpreztr-16933911.pdf?src-supplier=Avnet+Europe; ComponentLink1Description: https://datasheet.ciiva.com/16933/chpreztr-16933911.pdf?src-supplier=Avnet+Europe; ComponentLink2URL: https://datasheet.ciiva.com/9122/chpreztr-9122733.pdf?src-supplier=Avnet; ComponentLink2Description: https://datasheet.ciiva.com/9122/chpreztr-9122733.pdf?src-supplier=Avnet; Supplier Part Number 1: 118-CR0805-JW-512ELFCT-ND
footprint R0805
pins: 1, 2

## R8.2K_0805
designator R?, comment 8.2K
RES SMD 8.2K OHM 5% 1/8W 0805; Manufacturer: Yageo; Manufacturer Part Number: RC0805JR-078K2L; Resistance: 8.2kR; Temperature Coefficient: 100ppm/°C; Power Rating: 125mW; Voltage Rating: 150V; Supplier 1: Digi-Key; Supplier Part Number 1: 311-8.2KARCT-ND; Stock 1: 547858; Pricing 1: 1 = 0.10000, 10 = 0.03500, 100 = 0.01400, 1000 = 0.00631, 2500 = 0.00548 (USD); RoHS: Yes; Case/Package: 0805; Weight: 0.000194oz; Case Code (Metric): 2012; Case Code (Imperial): 0805; Contact Plating: Tin,Lead,Matte; Min Operating Temperature: -55°C; Max Operating Temperature: 155°C; Tolerance: 5%; Composition: Thick Film; Packaging: Tape and Reel; Package Quantity: 5000; Number of Terminations: 2; Termination: SMD/SMT; Military Standard: Not; Max Power Dissipation: 125mW; Working Voltage: 150V; Features: Moisture Resistant; Length: 2mm; Height: 0.024inch; Width: 0.049inch; Depth: 1.25mm; Radiation Hardening: No; REACH SVHC: Unknown; Lead Free: Lead Free; ComponentLink1URL: https://datasheet.ciiva.com/2519/pyu-r-int-thick-7-2519280.pdf?src-supplier=Digi-Key; ComponentLink1Description: https://datasheet.ciiva.com/2519/pyu-r-int-thick-7-2519280.pdf?src-supplier=Digi-Key; ComponentLink2URL: https://datasheet.ciiva.com/2519/pyu-r-int-thick-7-2519281.pdf?src-supplier=Digi-Key; ComponentLink2Description: https://datasheet.ciiva.com/2519/pyu-r-int-thick-7-2519281.pdf?src-supplier=Digi-Key; ComponentLink3URL: https://datasheet.ciiva.com/12577/rc0805-12577768.pdf?src-supplier=Mouser; ComponentLink3Description: https://datasheet.ciiva.com/12577/rc0805-12577768.pdf?src-supplier=Mouser; ComponentLink4URL: https://datasheet.ciiva.com/7942/442941-7942009.pdf?src-supplier=Element14; ComponentLink4Description: https://datasheet.ciiva.com/7942/442941-7942009.pdf?src-supplier=Element14; ComponentLink5URL: https://datasheet.ciiva.com/7942/442941-7942010.pdf?src-supplier=Element14; ComponentLink5Description: https://datasheet.ciiva.com/7942/442941-7942010.pdf?src-supplier=Element14; ComponentLink6URL: https://datasheet.ciiva.com/16741/rc0805-16741468.pdf?src-supplier=Future+Electronics; ComponentLink6Description: https://datasheet.ciiva.com/16741/rc0805-16741468.pdf?src-supplier=Future+Electronics; ComponentLink7URL: https://datasheet.ciiva.com/2519/pyu-r-int-thick-7-2519279.pdf?src-supplier=Digi-Key; ComponentLink7Description: https://datasheet.ciiva.com/2519/pyu-r-int-thick-7-2519279.pdf?src-supplier=Digi-Key
footprint R0805
pins: 1, 2

## R10K_0603
designator R?, comment 10K
RES SMD 10K OHM 1% 1/8W 0603; Manufacturer: Yageo; Manufacturer Part Number: RC0805FR-0710KL; Resistance: 10kR; Temperature Coefficient: 100ppm/°C; Power Rating: 125mW; Voltage Rating: 150V; Supplier 1: Digi-Key; Supplier Part Number 1: 311-10.0KCRCT-ND; Stock 1: 37831014; Pricing 1: 1 = 0.10000, 10 = 0.03600, 100 = 0.01450, 1000 = 0.00652, 2500 = 0.00566 (USD); RoHS: Yes; Case/Package: 0805; Case Code (Imperial): 0805; Case Code (Metric): 2012; Min Operating Temperature: -55°C; Max Operating Temperature: 155°C; Tolerance: 1%; Composition: Thick Film; Packaging: Tape and Reel; Package Quantity: 1; Termination: SMD/SMT; Number of Terminations: 2; Military Standard: Not; Max Power Dissipation: 125mW; Features: Moisture Resistant; Length: 2mm; Height: 0.024inch; Width: 0.049inch; Depth: 1.25mm; REACH SVHC: Unknown; Lead Free: Lead Free
footprint R0603
pins: 1, 2

## R10K_0805
designator R?, comment 10K
RES SMD 10K OHM 1% 1/8W 0805; Manufacturer: Yageo; Manufacturer Part Number: RC0805FR-0710KL; Resistance: 10kR; Temperature Coefficient: 100ppm/°C; Power Rating: 125mW; Voltage Rating: 150V; Supplier 1: Digi-Key; Supplier Part Number 1: 311-10.0KCRCT-ND; Stock 1: 37831014; Pricing 1: 1 = 0.10000, 10 = 0.03600, 100 = 0.01450, 1000 = 0.00652, 2500 = 0.00566 (USD); RoHS: Yes; Case/Package: 0805; Case Code (Imperial): 0805; Case Code (Metric): 2012; Min Operating Temperature: -55°C; Max Operating Temperature: 155°C; Tolerance: 1%; Composition: Thick Film; Packaging: Tape and Reel; Package Quantity: 1; Termination: SMD/SMT; Number of Terminations: 2; Military Standard: Not; Max Power Dissipation: 125mW; Features: Moisture Resistant; Length: 2mm; Height: 0.024inch; Width: 0.049inch; Depth: 1.25mm; REACH SVHC: Unknown; Lead Free: Lead Free; ComponentLink1URL: https://datasheet.ciiva.com/11808/0900766b8106beab-11808151.pdf?src-supplier=RSComponents; ComponentLink1Description: https://datasheet.ciiva.com/11808/0900766b8106beab-11808151.pdf?src-supplier=RSComponents; ComponentLink2URL: https://datasheet.ciiva.com/12669/rc0805-12669688.pdf?src-supplier=Mouser; ComponentLink2Description: https://datasheet.ciiva.com/12669/rc0805-12669688.pdf?src-supplier=Mouser; ComponentLink3URL: https://datasheet.ciiva.com/46447/444164-46447563.pdf?src-supplier=Element14; ComponentLink3Description: https://datasheet.ciiva.com/46447/444164-46447563.pdf?src-supplier=Element14; ComponentLink4URL: https://datasheet.ciiva.com/2456/pyu-r-int-thick-7-2456972.pdf?src-supplier=Digi-Key; ComponentLink4Description: https://datasheet.ciiva.com/2456/pyu-r-int-thick-7-2456972.pdf?src-supplier=Digi-Key; ComponentLink5URL: https://datasheet.ciiva.com/2456/pyu-r-int-thick-7-2456973.pdf?src-supplier=Digi-Key; ComponentLink5Description: https://datasheet.ciiva.com/2456/pyu-r-int-thick-7-2456973.pdf?src-supplier=Digi-Key; ComponentLink6URL: https://datasheet.ciiva.com/2456/pyu-r-int-thick-7-2456974.pdf?src-supplier=Digi-Key; ComponentLink6Description: https://datasheet.ciiva.com/2456/pyu-r-int-thick-7-2456974.pdf?src-supplier=Digi-Key; ComponentLink7URL: https://datasheet.ciiva.com/16747/rc0805-16747087.pdf?src-supplier=Future+Electronics; ComponentLink7Description: https://datasheet.ciiva.com/16747/rc0805-16747087.pdf?src-supplier=Future+Electronics
footprint R0805
pins: 1, 2

## R10M_0805
designator R?, comment 10M
RES SMD 10M OHM 5% 1/8W 0805; Manufacturer: Yageo; Manufacturer Part Number: RC0805JR-0710ML; Resistance: 10MR; Temperature Coefficient: 100ppm/°C; Power Rating: 125mW; Voltage Rating: 150V; Supplier 1: Digi-Key; Stock 1: 301251; Pricing 1: 1 = 0.10000, 10 = 0.03500, 100 = 0.01400, 1000 = 0.00631, 2500 = 0.00548 (USD); RoHS: Yes; Case/Package: 0805; Contact Plating: Tin,Matte,Lead; Case Code (Imperial): 0805; Case Code (Metric): 2012; Min Operating Temperature: -55°C; Max Operating Temperature: 155°C; Composition: Thick Film; Tolerance: 5%; Packaging: Tape and Reel; Package Quantity: 1; Termination: SMD/SMT; Number of Terminations: 2; Military Standard: Not; Max Power Dissipation: 125mW; Features: Moisture Resistant; Length: 0.079inch; Height: 0.024inch; Width: 0.049inch; Depth: 1.25mm; Radiation Hardening: No; REACH SVHC: Unknown; Lead Free: Lead Free; ComponentLink1URL: https://datasheet.ciiva.com/12667/rc0805-12667352.pdf?src-supplier=Mouser; ComponentLink1Description: https://datasheet.ciiva.com/12667/rc0805-12667352.pdf?src-supplier=Mouser; ComponentLink2URL: https://datasheet.ciiva.com/2456/pyu-r-int-thick-7-2456140.pdf?src-supplier=Digi-Key; ComponentLink2Description: https://datasheet.ciiva.com/2456/pyu-r-int-thick-7-2456140.pdf?src-supplier=Digi-Key; ComponentLink3URL: https://datasheet.ciiva.com/2456/pyu-r-int-thick-7-2456141.pdf?src-supplier=Digi-Key; ComponentLink3Description: https://datasheet.ciiva.com/2456/pyu-r-int-thick-7-2456141.pdf?src-supplier=Digi-Key; ComponentLink4URL: https://datasheet.ciiva.com/2456/pyu-r-int-thick-7-2456142.pdf?src-supplier=Digi-Key; ComponentLink4Description: https://datasheet.ciiva.com/2456/pyu-r-int-thick-7-2456142.pdf?src-supplier=Digi-Key; Supplier Part Number 1: 311-10MARCT-ND
footprint R0805
pins: 1, 2

## R10R_0805
designator R?, comment 10R
RES SMD 10 OHM 1% 1/8W 0805; Manufacturer: Yageo; Manufacturer Part Number: RC0805FR-0710RL; Power Rating: 125mW; Voltage Rating: 150V; Temperature Coefficient: 200ppm/°C; Supplier 1: Digi-Key; Supplier Part Number 1: 311-10.0CRCT-ND; Stock 1: 3606359; Pricing 1: 1 = 0.10000, 10 = 0.07200, 100 = 0.02770, 1000 = 0.01219, 2500 = 0.01053 (USD); RoHS: Yes; Case/Package: 0805; Number of Pins: 2; Case Code (Imperial): 0805; Case Code (Metric): 2012; Min Operating Temperature: -55°C; Max Operating Temperature: 155°C; Resistance: 10R; Tolerance: 1%; Packaging: Tape and Reel; Voltage Rating (DC): 150V; Package Quantity: 1; Termination: SMD/SMT; Composition: Thick Film; Number of Terminations: 2; Max Power Dissipation: 125mW; Features: Moisture Resistant; Length: 2mm; Height: 0.5mm; Width: 1.25mm; Depth: 1.25mm; REACH SVHC: No SVHC; Lead Free: Lead Free; ComponentLink1URL: https://datasheet.ciiva.com/11809/0900766b8106beab-11809370.pdf?src-supplier=RSComponents; ComponentLink1Description: https://datasheet.ciiva.com/11809/0900766b8106beab-11809370.pdf?src-supplier=RSComponents; ComponentLink2URL: https://datasheet.ciiva.com/2457/pyu-r-int-thick-7-2457098.pdf?src-supplier=Digi-Key; ComponentLink2Description: https://datasheet.ciiva.com/2457/pyu-r-int-thick-7-2457098.pdf?src-supplier=Digi-Key; ComponentLink3URL: https://datasheet.ciiva.com/7941/444164-7941687.pdf?src-supplier=Element14; ComponentLink3Description: https://datasheet.ciiva.com/7941/444164-7941687.pdf?src-supplier=Element14; ComponentLink4URL: https://datasheet.ciiva.com/2457/pyu-r-int-thick-7-2457099.pdf?src-supplier=Digi-Key; ComponentLink4Description: https://datasheet.ciiva.com/2457/pyu-r-int-thick-7-2457099.pdf?src-supplier=Digi-Key; ComponentLink5URL: https://datasheet.ciiva.com/2457/pyu-r-int-thick-7-2457100.pdf?src-supplier=Digi-Key; ComponentLink5Description: https://datasheet.ciiva.com/2457/pyu-r-int-thick-7-2457100.pdf?src-supplier=Digi-Key; ComponentLink6URL: https://datasheet.ciiva.com/46447/444164-46447565.pdf?src-supplier=Element14; ComponentLink6Description: https://datasheet.ciiva.com/46447/444164-46447565.pdf?src-supplier=Element14; ComponentLink7URL: https://datasheet.ciiva.com/7941/444164-7941688.pdf?src-supplier=Element14; ComponentLink7Description: https://datasheet.ciiva.com/7941/444164-7941688.pdf?src-supplier=Element14; ComponentLink8URL: https://datasheet.ciiva.com/12555/rc0805-257173-12555112.pdf?src-supplier=Mouser; ComponentLink8Description: https://datasheet.ciiva.com/12555/rc0805-257173-12555112.pdf?src-supplier=Mouser; ComponentLink9URL: https://datasheet.ciiva.com/46412/444164-46412859.pdf?src-supplier=Element14; ComponentLink9Description: https://datasheet.ciiva.com/46412/444164-46412859.pdf?src-supplier=Element14
footprint R0805
pins: 1, 2

## R12K_0805
designator R?, comment 12K
RES SMD 12K OHM 5% 1/8W 0805; Manufacturer: Yageo; Manufacturer Part Number: RC0805JR-0712KL; Resistance: 12kR; Temperature Coefficient: 100ppm/°C; Power Rating: 125mW; Voltage Rating: 150V; Supplier 1: Digi-Key; Supplier Part Number 1: 311-12KARCT-ND; Stock 1: 440700; Pricing 1: 1 = 0.10000, 10 = 0.03500, 100 = 0.01400, 1000 = 0.00631, 2500 = 0.00548 (USD); RoHS: Yes; Case/Package: 0805; Contact Plating: Tin,Matte,Lead; Case Code (Imperial): 0805; Case Code (Metric): 2012; Min Operating Temperature: -55°C; Max Operating Temperature: 155°C; Tolerance: 5%; Composition: Thick Film; Packaging: Tape and Reel; Package Quantity: 5000; Termination: SMD/SMT; Military Standard: Not; Length: 2mm; Height: 0.5mm; Width: 1.25mm; Depth: 1.25mm; Radiation Hardening: No; REACH SVHC: Unknown; Lead Free: Lead Free; ComponentLink1URL: https://datasheet.ciiva.com/7941/442941-7941880.pdf?src-supplier=Element14; ComponentLink1Description: https://datasheet.ciiva.com/7941/442941-7941880.pdf?src-supplier=Element14; ComponentLink2URL: https://datasheet.ciiva.com/7941/442941-7941881.pdf?src-supplier=Element14; ComponentLink2Description: https://datasheet.ciiva.com/7941/442941-7941881.pdf?src-supplier=Element14; ComponentLink3URL: https://datasheet.ciiva.com/17082/rc0805-17082649.pdf?src-supplier=Future+Electronics; ComponentLink3Description: https://datasheet.ciiva.com/17082/rc0805-17082649.pdf?src-supplier=Future+Electronics
footprint R0805
pins: 1, 2

## R22K_0805
designator R?, comment 22K
RES SMD 22K OHM 0.1% 1/8W 0805; Manufacturer: Yageo; Manufacturer Part Number: RT0805BRE0722KL; Resistance: 22kR; Temperature Coefficient: 50ppm/°C; Voltage Rating (DC): 150V; Supplier 1: Digi-Key; Supplier Part Number 1: YAG4971CT-ND; Stock 1: 7604; Pricing 1: 1 = 0.47000, 10 = 0.36200, 100 = 0.15210, 1000 = 0.08392, 2500 = 0.07867 (USD); RoHS: Yes; Case/Package: 0805; Contact Plating: Tin,Matte; Min Operating Temperature: -55°C; Max Operating Temperature: 125°C; Tolerance: 0.1%; Composition: Thin Film; Packaging: Tape and Reel; Length: 2mm; Height: 500um; Width: 1.25mm; Radiation Hardening: No; Lead Free: Lead Free; ComponentLink1URL: https://datasheet.ciiva.com/8890/pyu-rt-1-to-0-05-rohs-l-4-8890236.pdf?src-supplier=Avnet; ComponentLink1Description: https://datasheet.ciiva.com/8890/pyu-rt-1-to-0-05-rohs-l-4-8890236.pdf?src-supplier=Avnet
footprint R0805
pins: 1, 2

## R22R_0805
designator R?, comment 22R
RES SMD 22 OHM 1% 1/8W 0805; Manufacturer: Yageo; Manufacturer Part Number: RC0805FR-0722RL; Temperature Coefficient: 100ppm/°C; Power Rating: 125mW; Voltage Rating: 150V; Supplier 1: Digi-Key; Stock 1: 1000605; Pricing 1: 1 = 0.10000, 10 = 0.04000, 100 = 0.01620, 1000 = 0.00726, 2500 = 0.00630 (USD); RoHS: Yes; Case/Package: 0805; Case Code (Metric): 2012; Case Code (Imperial): 0805; Min Operating Temperature: -55°C; Max Operating Temperature: 155°C; Composition: Thick Film; Resistance: 22R; Tolerance: 1%; Packaging: Tape and Reel; Package Quantity: 1; Number of Terminations: 2; Termination: SMD/SMT; Military Standard: Not; Max Power Dissipation: 125mW; Working Voltage: 150V; Features: Moisture Resistant; Length: 0.079inch; Height: 0.024inch; Width: 0.049inch; Depth: 1.25mm; REACH SVHC: Unknown; Lead Free: Lead Free; ComponentLink1URL: https://datasheet.ciiva.com/11819/0900766b8106beab-11819837.pdf?src-supplier=RSComponents; ComponentLink1Description: https://datasheet.ciiva.com/11819/0900766b8106beab-11819837.pdf?src-supplier=RSComponents; ComponentLink2URL: https://datasheet.ciiva.com/2457/pyu-r-int-thick-7-2457044.pdf?src-supplier=Digi-Key; ComponentLink2Description: https://datasheet.ciiva.com/2457/pyu-r-int-thick-7-2457044.pdf?src-supplier=Digi-Key; ComponentLink3URL: https://datasheet.ciiva.com/46447/444164-46447574.pdf?src-supplier=Element14; ComponentLink3Description: https://datasheet.ciiva.com/46447/444164-46447574.pdf?src-supplier=Element14; ComponentLink4URL: https://datasheet.ciiva.com/12667/rc0805-12667371.pdf?src-supplier=Mouser; ComponentLink4Description: https://datasheet.ciiva.com/12667/rc0805-12667371.pdf?src-supplier=Mouser; ComponentLink5URL: https://datasheet.ciiva.com/2457/pyu-r-int-thick-7-2457045.pdf?src-supplier=Digi-Key; ComponentLink5Description: https://datasheet.ciiva.com/2457/pyu-r-int-thick-7-2457045.pdf?src-supplier=Digi-Key; ComponentLink6URL: https://datasheet.ciiva.com/2457/pyu-r-int-thick-7-2457046.pdf?src-supplier=Digi-Key; ComponentLink6Description: https://datasheet.ciiva.com/2457/pyu-r-int-thick-7-2457046.pdf?src-supplier=Digi-Key; Supplier Part Number 1: 311-22.0CRCT-ND
footprint R0805
pins: 1, 2